# EAGLE library part ADAFRUIT-DS3231 (library dotson)
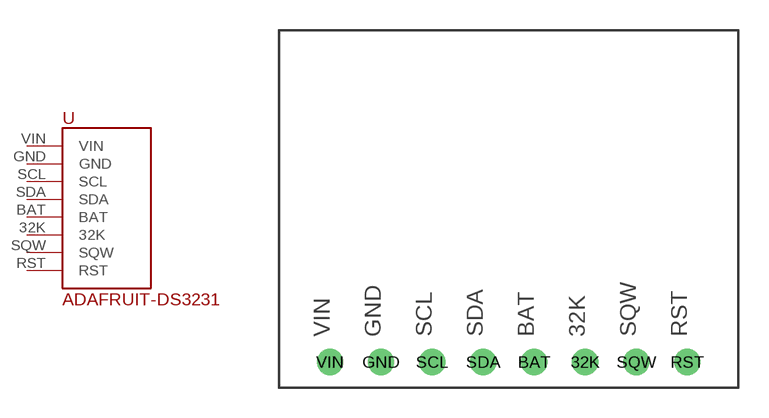
[diagram p3: symbol with the pads of ADAFRUIT-DS3231; footprint ADAFRUIT-DS3231]

Designator prefix -

## ADAFRUIT-DS3231  [ADAFRUIT-DS3231]
32K  32K
BAT  BAT
GND  GND
RST  RST
SCL  SCL
SDA  SDA
SQW  SQW
VIN  VIN

## Footprint ADAFRUIT-DS3231 (pad centres in mm)
drill 0.8: 32K 15.24,1.27; BAT 12.7,1.27; GND 5.08,1.27; RST 20.32,1.27; SCL 7.62,1.27; SDA 10.16,1.27; SQW 17.78,1.27; VIN 2.54,1.27